# Altium footprint library SS49E_Hall.PcbLib: 1 footprints
Each footprint in its own frame and in the unit in brackets; x right, y up, seen from the top. Pads: shape width x height; smd on the part's side, far side on the other; paste and mask are expansions set on the pad; w line width, h text height; cw(c..) or ccw(c..) is an arc to the next point about the centre after c.
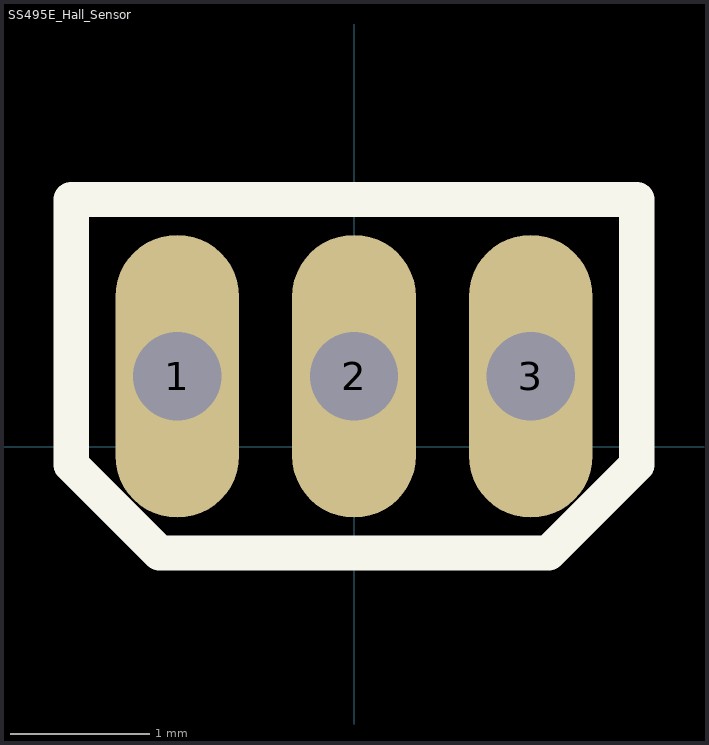
[diagram p0: the footprint, top view; thin cyan lines are the x and y axes]

## SS495E_Hall_Sensor [mil]
pads (3):
  oval 35x80 hole 25: 1(-50,20) 2(0,20) 3(50,20)
Top Overlay:
  lines w10: -80,-5 -80,70 80,70 80,-5 55,-30 -55,-30 -80,-5
Bottom Overlay:
  lines w10: -80.62,71.25 80,70 ; -80.62,71.25 -80,-15 -65,-30 65,-30 80,-15 80,70 ; -80.62,71.25 4.38,71.25 80,70
3D body "SS495A (Honeywell).STEP": height 380.24, standoff -330.79, extent -79.84,-25 80,36.02